# EAGLE library part STM32 (library P442)
STM32 Discovery Board
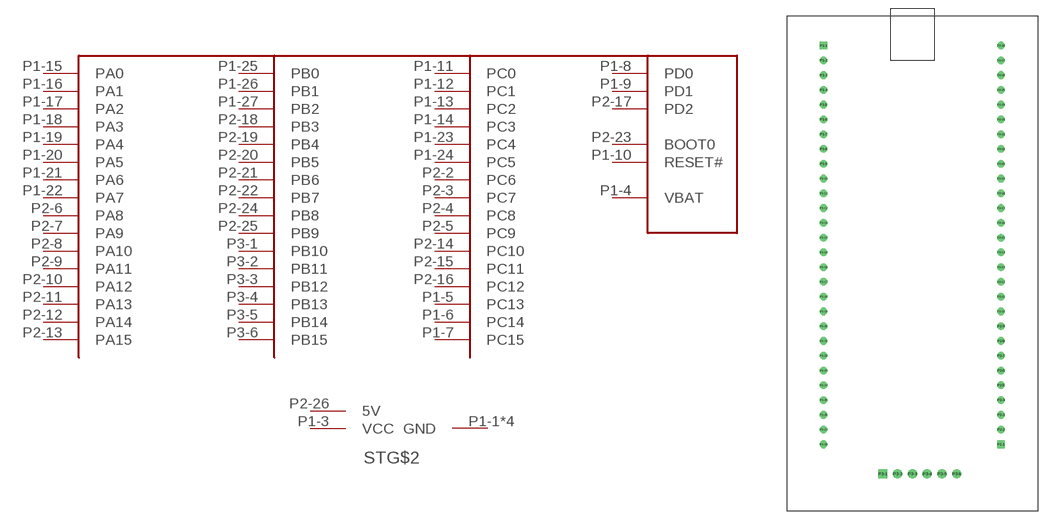
[diagram p2: symbol with the pads of STM32; footprint STM32]

Designator prefix ST; gates G$1=STM32-DISCOVERY-BD G$2=VCC_5V_GND

## STM32  [STM32]
P1-1  G$2:GND  pwr
P1-3  G$2:VCC  pwr
P1-4  G$1:VBAT  pwr
P1-5  G$1:PC13
P1-6  G$1:PC14
P1-7  G$1:PC15
P1-8  G$1:PD0
P1-9  G$1:PD1
P1-10  G$1:RESET#
P1-11  G$1:PC0
P1-12  G$1:PC1
P1-13  G$1:PC2
P1-14  G$1:PC3
P1-15  G$1:PA0
P1-16  G$1:PA1
P1-17  G$1:PA2
P1-18  G$1:PA3
P1-19  G$1:PA4
P1-20  G$1:PA5
P1-21  G$1:PA6
P1-22  G$1:PA7
P1-23  G$1:PC4
P1-24  G$1:PC5
P1-25  G$1:PB0
P1-26  G$1:PB1
P1-27  G$1:PB2
P1-28  G$2:GND  pwr
P2-1  G$2:GND  pwr
P2-2  G$1:PC6
P2-3  G$1:PC7
P2-4  G$1:PC8
P2-5  G$1:PC9
P2-6  G$1:PA8
P2-7  G$1:PA9
P2-8  G$1:PA10
P2-9  G$1:PA11
P2-10  G$1:PA12
P2-11  G$1:PA13
P2-12  G$1:PA14
P2-13  G$1:PA15
P2-14  G$1:PC10
P2-15  G$1:PC11
P2-16  G$1:PC12
P2-17  G$1:PD2
P2-18  G$1:PB3
P2-19  G$1:PB4
P2-20  G$1:PB5
P2-21  G$1:PB6
P2-22  G$1:PB7
P2-23  G$1:BOOT0
P2-24  G$1:PB8
P2-25  G$1:PB9
P2-26  G$2:5V  pwr
P2-28  G$2:GND  pwr
P3-1  G$1:PB10
P3-2  G$1:PB11
P3-3  G$1:PB12
P3-4  G$1:PB13
P3-5  G$1:PB14
P3-6  G$1:PB15

## Footprint STM32 (pad centres in mm)
STM32 Discovery Board
drill 0.8 square: P1-1 -15.24,73.66; P2-1 15.24,5.08
drill 0.8: P1-2 -15.24,71.12; P1-3 -15.24,68.58; P1-4 -15.24,66.04; P1-5 -15.24,63.5; P1-6 -15.24,60.96; P1-7 -15.24,58.42; P1-8 -15.24,55.88; P1-9 -15.24,53.34; P1-10 -15.24,50.8; P1-11 -15.24,48.26; P1-12 -15.24,45.72; P1-13 -15.24,43.18; P1-14 -15.24,40.64; P1-15 -15.24,38.1; P1-16 -15.24,35.56; P1-17 -15.24,33.02; P1-18 -15.24,30.48; P1-19 -15.24,27.94; P1-20 -15.24,25.4; P1-21 -15.24,22.86; P1-22 -15.24,20.32; P1-23 -15.24,17.78; P1-24 -15.24,15.24; P1-25 -15.24,12.7; P1-26 -15.24,10.16; P1-27 -15.24,7.62; P1-28 -15.24,5.08; P2-2 15.24,7.62; P2-3 15.24,10.16; P2-4 15.24,12.7; P2-5 15.24,15.24; P2-6 15.24,17.78; P2-7 15.24,20.32; P2-8 15.24,22.86; P2-9 15.24,25.4; P2-10 15.24,27.94; P2-11 15.24,30.48; P2-12 15.24,33.02; P2-13 15.24,35.56; P2-14 15.24,38.1; P2-15 15.24,40.64; P2-16 15.24,43.18; P2-17 15.24,45.72; P2-18 15.24,48.26; P2-19 15.24,50.8; P2-20 15.24,53.34; P2-21 15.24,55.88; P2-22 15.24,58.42; P2-23 15.24,60.96; P2-24 15.24,63.5; P2-25 15.24,66.04; P2-26 15.24,68.58; P2-27 15.24,71.12; P2-28 15.24,73.66
drill 1.067 square: P3-1 -5.08,0
drill 1.067: P3-2 -2.54,0; P3-3 0,0; P3-4 2.54,0; P3-5 5.08,0; P3-6 7.62,0